# Altium integrated library U_I_Meter_TOP.IntLib: 1 symbol
Pins are listed as number, name and electrical type; pins without a type are passive.

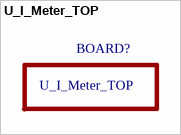
[diagram p0: symbol U_I_Meter_TOP]

## U_I_Meter_TOP
designator BOARD?
footprint U_I_Meter_TOP